# EAGLE library part ADAFRUIT_BLUEFRUIT-LE-NRF8001 (library BOBs)
Example: Mounting Hole
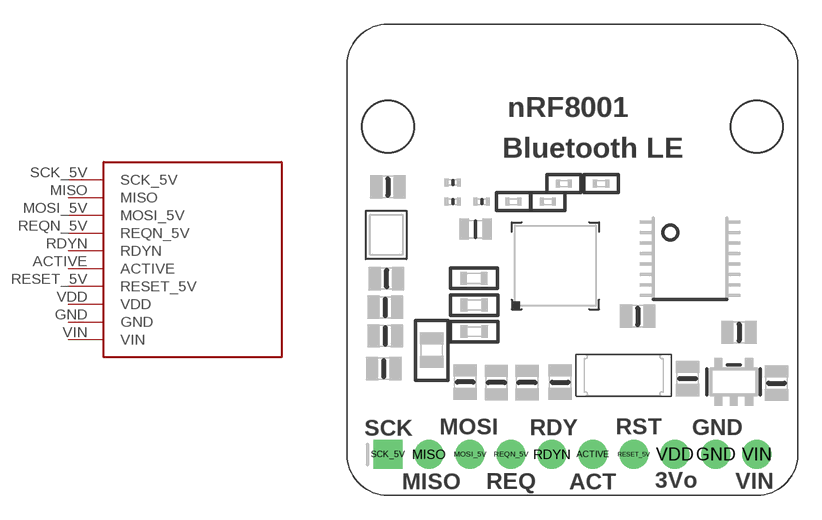
[diagram p7: symbol with the pads of ADAFRUIT_BLUEFRUIT-LE-NRF8001; footprint ADAFRUIT_BLUEFRUIT-LE-NRF8001]

Designator prefix -

## ADAFRUIT_BLUEFRUIT-LE-NRF8001-BOB (DIST: Adafruit; DISTPN: 1697)  [ADAFRUIT_BLUEFRUIT-LE-NRF8001]
ACTIVE  ACTIVE
GND  GND
MISO  MISO
MOSI_5V  MOSI_5V
RDYN  RDYN
REQN_5V  REQN_5V
RESET_5V  RESET_5V
SCK_5V  SCK_5V
VDD  VDD
VIN  VIN

## Footprint ADAFRUIT_BLUEFRUIT-LE-NRF8001 (pad centres in mm)
drill 1 pad 1.778: ACTIVE 15.24,2.54; GND 22.86,2.54; MISO 5.08,2.54; MOSI_5V 7.62,2.54; RDYN 12.7,2.54; REQN_5V 10.16,2.54; RESET_5V 17.78,2.54; VDD 20.32,2.54; VIN 25.4,2.54
drill 1 pad 1.778 square: SCK_5V 2.54,2.54